# Altium schematic symbol library CON2-Mountingpads.Schlib: 1 symbol
Pins are listed as number, name and electrical type; pins without a type are passive.

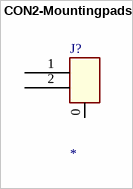
[diagram p0: symbol CON2-Mountingpads]

## CON2-Mountingpads
designator J?
pins: 0 MP, 1, 2